# EAGLE library part 691307400004 (library Wuerth_Elektronik_eiCan_Terminal_Blocks_v2.0)
WR - TBL Serie 3074 - 7.62mm Reversed Gender Vertical PCB Header , 4 pins
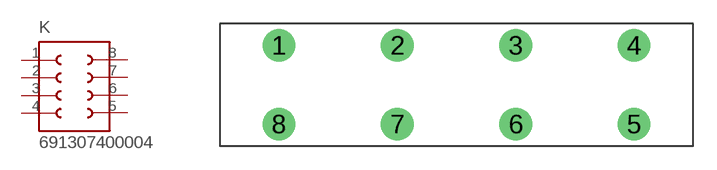
[diagram p192: symbol with the pads of 691307400004; footprint 691307400004]

Designator prefix K

## 691307400004  [691307400004]
1  1  pas
2  2  pas
3  3  pas
4  4  pas
5  5  pas
6  6  pas
7  7  pas
8  8  pas

## Footprint 691307400004 (pad centres in mm)
WR - TBL Serie 3074 - 7.62mm Reversed Gender Vertical PCB Header , 4 pins
drill 1.4 round: 1 -15.24,0; 2 -7.62,0; 3 0,0; 4 7.62,0; 5 7.62,-5.08; 6 0,-5.08; 7 -7.62,-5.08; 8 -15.24,-5.08